# Altium footprint library DPAK.PcbLib: 1 footprints
Each footprint in its own frame and in the unit in brackets; x right, y up, seen from the top. Pads: shape width x height; smd on the part's side, far side on the other; paste and mask are expansions set on the pad; w line width, h text height; cw(c..) or ccw(c..) is an arc to the next point about the centre after c.
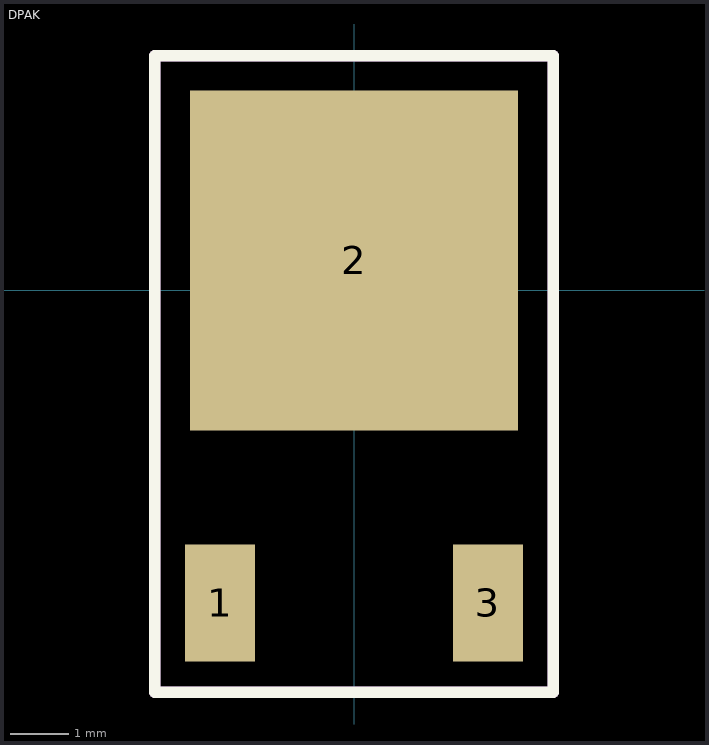
[diagram p0: the footprint, top view; thin cyan lines are the x and y axes]

## DPAK [mm]
pads (3):
  rect 1.2x2 smd: 1(-2.286,-5.334) 3(2.286,-5.334)
  rect 5.6x5.8 smd: 2(0,0.508)
Top Overlay:
  lines w0.2: -3.4,-6.858 3.4,-6.858 3.4,4 -3.4,4 -3.4,-6.858
TopAssy:
  lines w0.2: -3.4,-6.858 -3.4,4 3.4,4 3.4,-6.858 -3.4,-6.858
  text ".Designator" at -0.381,-0.635 h1.52
3D body "DPAK_TO-252AA.step": height 2.37, standoff -0.03, extent -3.367,-6.098 3.367,4.002